# EAGLE library part ADP5050ACPZ-R7 (library ADP5050)
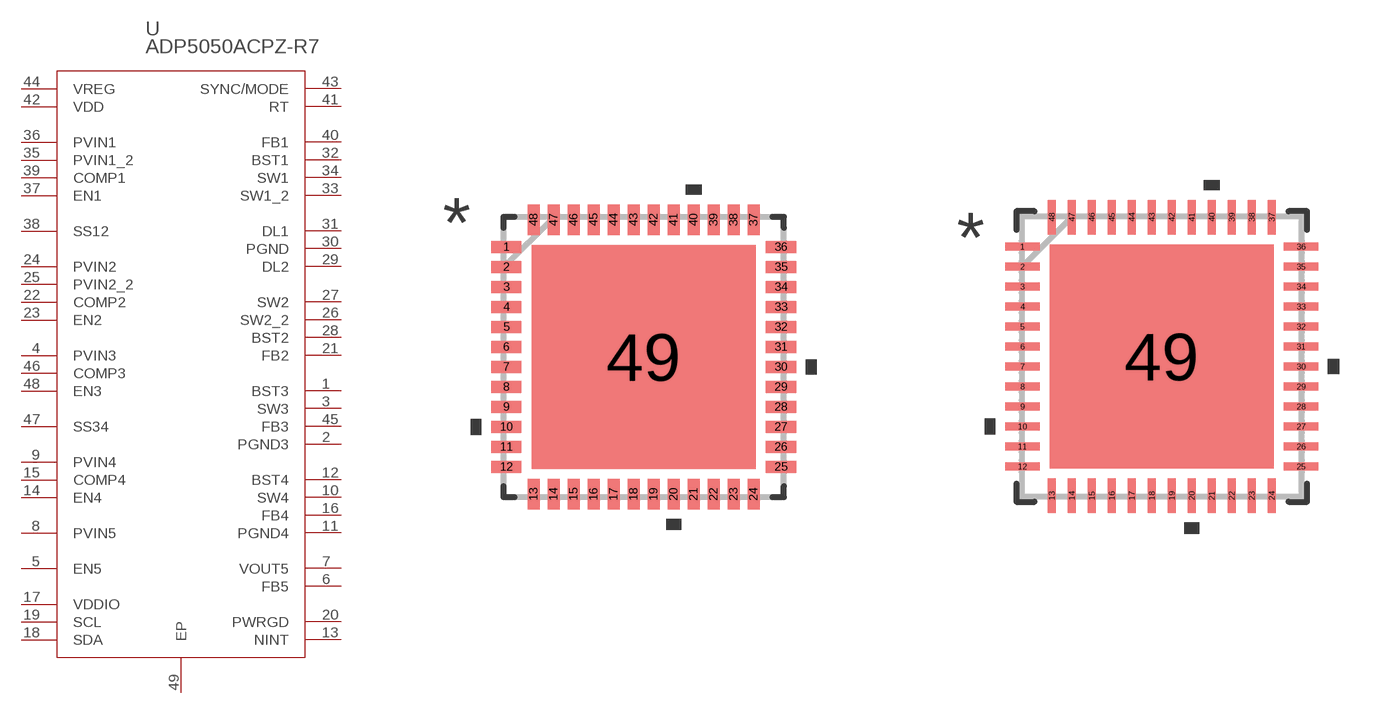
[diagram p0: symbol with the pads of CP_48_13; footprints CP_48_13, CP_48_13-M]

Designator prefix U

## ADP5050ACPZ-R7 (BUILT_BY: EMA_UL_Team; MANUFACTURER_PART_NUMBER: ADP5050ACPZ-R7; VENDOR: Analog Devices Inc)  [CP_48_13]
1  BST3  pas
2  PGND3  pas
3  SW3  pas
4  PVIN3  pas
5  EN5  pas
6  FB5  pas
7  VOUT5  pas
8  PVIN5  pas
9  PVIN4  pas
10  SW4  pas
11  PGND4  pas
12  BST4  pas
13  NINT  pas
14  EN4  pas
15  COMP4  pas
16  FB4  pas
17  VDDIO  pas
18  SDA  pas
19  SCL  pas
20  PWRGD  pas
21  FB2  pas
22  COMP2  pas
23  EN2  pas
24  PVIN2  pas
25  PVIN2_2  pas
26  SW2_2  pas
27  SW2  pas
28  BST2  pas
29  DL2  pas
30  PGND  pas
31  DL1  pas
32  BST1  pas
33  SW1_2  pas
34  SW1  pas
35  PVIN1_2  pas
36  PVIN1  pas
37  EN1  pas
38  SS12  pas
39  COMP1  pas
40  FB1  pas
41  RT  pas
42  VDD  pas
43  SYNC/MODE  pas
44  VREG  pas
45  FB3  pas
46  COMP3  pas
47  SS34  pas
48  EN3  pas
49  EP  pas

## ADP5050ACPZ-R7CP_48_13-M (BUILT_BY: EMA_UL_Team; MANUFACTURER_PART_NUMBER: ADP5050ACPZ-R7; VENDOR: Analog Devices Inc)  [CP_48_13-M]
Pads as for CP_48_13

## ADP5050ACPZ-R7CP_48_13-L (BUILT_BY: EMA_UL_Team; MANUFACTURER_PART_NUMBER: ADP5050ACPZ-R7; VENDOR: Analog Devices Inc)  [CP_48_13-L]
Pads as for CP_48_13

## Footprint CP_48_13 (pad centres in mm)
smd 0.755 x 0.3: 1 -3.433,2.75; 2 -3.433,2.25; 3 -3.433,1.75; 4 -3.433,1.25; 5 -3.433,0.75; 6 -3.433,0.25; 7 -3.433,-0.25; 8 -3.433,-0.75; 9 -3.433,-1.25; 10 -3.433,-1.75; 11 -3.433,-2.25; 12 -3.433,-2.75; 25 3.433,-2.75; 26 3.433,-2.25; 27 3.433,-1.75; 28 3.433,-1.25; 29 3.433,-0.75; 30 3.433,-0.25; 31 3.433,0.25; 32 3.433,0.75; 33 3.433,1.25; 34 3.433,1.75; 35 3.433,2.25; 36 3.433,2.75
smd 0.3 x 0.755: 13 -2.75,-3.433; 14 -2.25,-3.433; 15 -1.75,-3.433; 16 -1.25,-3.433; 17 -0.75,-3.433; 18 -0.25,-3.433; 19 0.25,-3.433; 20 0.75,-3.433; 21 1.25,-3.433; 22 1.75,-3.433; 23 2.25,-3.433; 24 2.75,-3.433; 37 2.75,3.433; 38 2.25,3.433; 39 1.75,3.433; 40 1.25,3.433; 41 0.75,3.433; 42 0.25,3.433; 43 -0.25,3.433; 44 -0.75,3.433; 45 -1.25,3.433; 46 -1.75,3.433; 47 -2.25,3.433; 48 -2.75,3.433
smd 5.6 x 5.6: 49 0,0

## Footprint CP_48_13-M (pad centres in mm)
smd 0.856 x 0.198: 1 -3.483,2.75; 2 -3.483,2.25; 3 -3.483,1.75; 4 -3.483,1.25; 5 -3.483,0.75; 6 -3.483,0.25; 7 -3.483,-0.25; 8 -3.483,-0.75; 9 -3.483,-1.25; 10 -3.483,-1.75; 11 -3.483,-2.25; 12 -3.483,-2.75; 25 3.483,-2.75; 26 3.483,-2.25; 27 3.483,-1.75; 28 3.483,-1.25; 29 3.483,-0.75; 30 3.483,-0.25; 31 3.483,0.25; 32 3.483,0.75; 33 3.483,1.25; 34 3.483,1.75; 35 3.483,2.25; 36 3.483,2.75
smd 0.198 x 0.856: 13 -2.75,-3.483; 14 -2.25,-3.483; 15 -1.75,-3.483; 16 -1.25,-3.483; 17 -0.75,-3.483; 18 -0.25,-3.483; 19 0.25,-3.483; 20 0.75,-3.483; 21 1.25,-3.483; 22 1.75,-3.483; 23 2.25,-3.483; 24 2.75,-3.483; 37 2.75,3.483; 38 2.25,3.483; 39 1.75,3.483; 40 1.25,3.483; 41 0.75,3.483; 42 0.25,3.483; 43 -0.25,3.483; 44 -0.75,3.483; 45 -1.25,3.483; 46 -1.75,3.483; 47 -2.25,3.483; 48 -2.75,3.483
smd 5.6 x 5.6: 49 0,0

## Footprint CP_48_13-L (pad centres in mm)
smd 0.653 x 0.198: 1 -3.382,2.75; 2 -3.382,2.25; 3 -3.382,1.75; 4 -3.382,1.25; 5 -3.382,0.75; 6 -3.382,0.25; 7 -3.382,-0.25; 8 -3.382,-0.75; 9 -3.382,-1.25; 10 -3.382,-1.75; 11 -3.382,-2.25; 12 -3.382,-2.75; 25 3.382,-2.75; 26 3.382,-2.25; 27 3.382,-1.75; 28 3.382,-1.25; 29 3.382,-0.75; 30 3.382,-0.25; 31 3.382,0.25; 32 3.382,0.75; 33 3.382,1.25; 34 3.382,1.75; 35 3.382,2.25; 36 3.382,2.75
smd 0.198 x 0.653: 13 -2.75,-3.382; 14 -2.25,-3.382; 15 -1.75,-3.382; 16 -1.25,-3.382; 17 -0.75,-3.382; 18 -0.25,-3.382; 19 0.25,-3.382; 20 0.75,-3.382; 21 1.25,-3.382; 22 1.75,-3.382; 23 2.25,-3.382; 24 2.75,-3.382; 37 2.75,3.382; 38 2.25,3.382; 39 1.75,3.382; 40 1.25,3.382; 41 0.75,3.382; 42 0.25,3.382; 43 -0.25,3.382; 44 -0.75,3.382; 45 -1.25,3.382; 46 -1.75,3.382; 47 -2.25,3.382; 48 -2.75,3.382
smd 5.6 x 5.6: 49 0,0